# Altium footprint library DRA124-1R0-R.PcbLib: 1 footprints
Each footprint in its own frame and in the unit in brackets; x right, y up, seen from the top. Pads: shape width x height; smd on the part's side, far side on the other; paste and mask are expansions set on the pad; w line width, h text height; cw(c..) or ccw(c..) is an arc to the next point about the centre after c.
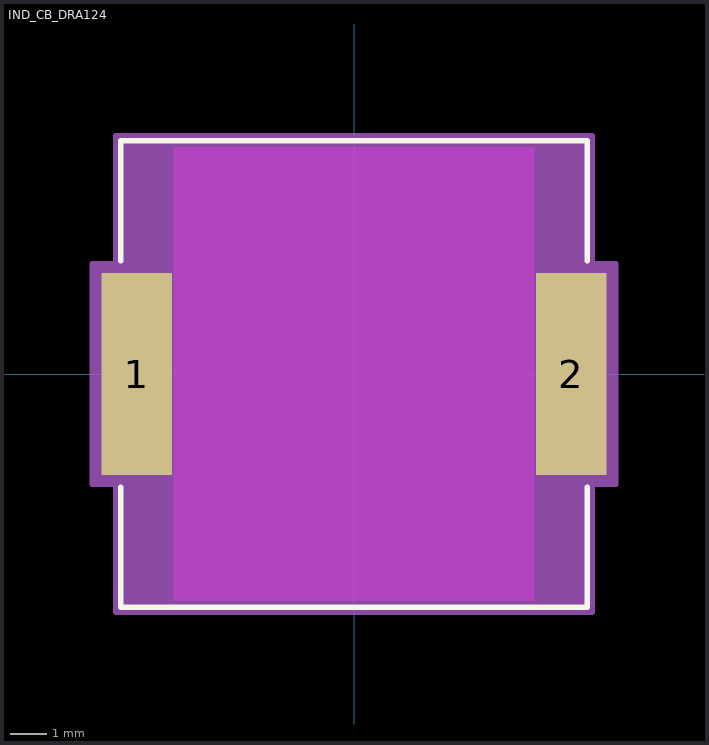
[diagram p0: the footprint, top view; thin cyan lines are the x and y axes]

## IND_CB_DRA124 [mil]
pads (2):
  rect 75.5x217 smd paste+0 mask+0: 1(-233.75,0) 2(233.75,0)
Top Layer keep-out:
  region: -194,-244 -194,244 194,244 194,-244
Top Overlay:
  lines w6: -251,-121.6 -251,-251 251,-251 251,-121.6 ; -251,121.6 -251,251 251,251 251,121.6
Mechanical 13:
  circle w0: c-243,0 r0
  lines w1: -246,-246 246,-246 246,246 -246,246 -246,-246
Mechanical 15:
  region: -256,-118.5 -281.5,-118.5 -281.5,118.5 -256,118.5 -256,256 256,256 256,118.5 281.5,118.5 281.5,-118.5 256,-118.5 256,-256 -256,-256
  lines w6: -281.5,-118.5 -281.5,118.5 -256,118.5 -256,256 256,256 256,118.5 281.5,118.5 281.5,-118.5 256,-118.5 256,-256 -256,-256 -256,-118.5 -281.5,-118.5
3D body "IND_CB_DRA124.step": height 177.01, standoff 0, extent -245.98,-246.1 245.98,246.1